# Altium footprint library QTH-060-XX-X-D-A.PcbLib: 1 footprints
Each footprint in its own frame and in the unit in brackets; x right, y up, seen from the top. Pads: shape width x height; smd on the part's side, far side on the other; paste and mask are expansions set on the pad; w line width, h text height; cw(c..) or ccw(c..) is an arc to the next point about the centre after c.
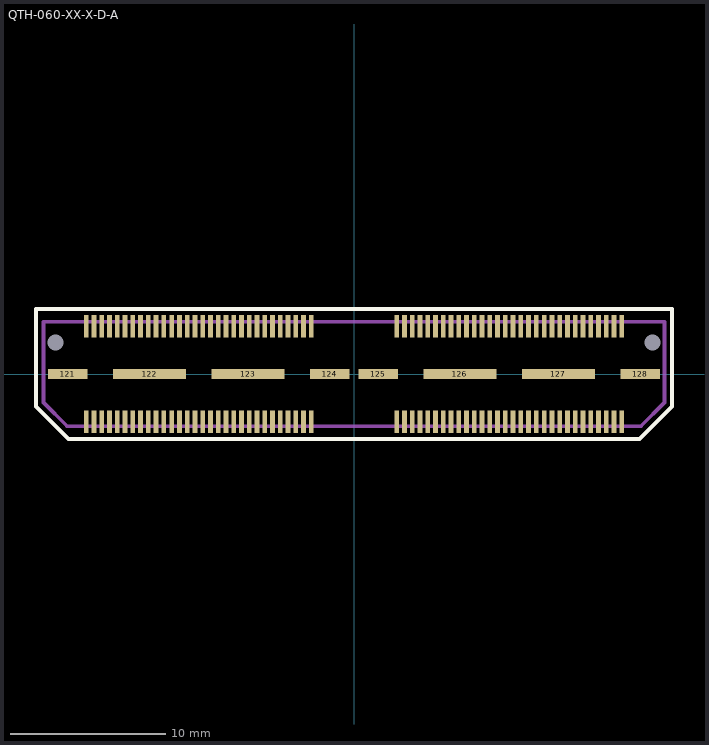
[diagram p0: the footprint, top view; thin cyan lines are the x and y axes]

## QTH-060-XX-X-D-A [mm]
pads (130):
  rect 0.305x1.45 smd mask+0.05: 1(-17.25,3.086) 2(-17.25,-3.086) 3(-16.75,3.086) 4(-16.75,-3.086) 5(-16.25,3.086) 6(-16.25,-3.086) 7(-15.75,3.086) 8(-15.75,-3.086) 9(-15.25,3.086) 10(-15.25,-3.086) 11(-14.75,3.086) 12(-14.75,-3.086) 13(-14.25,3.086) 14(-14.25,-3.086) 15(-13.75,3.086) 16(-13.75,-3.086) 17(-13.25,3.086) 18(-13.25,-3.086) 19(-12.75,3.086) 20(-12.75,-3.086) 21(-12.25,3.086) 22(-12.25,-3.086) 23(-11.75,3.086) 24(-11.75,-3.086) 25(-11.25,3.086) 26(-11.25,-3.086) 27(-10.75,3.086) 28(-10.75,-3.086) 29(-10.25,3.086) 30(-10.25,-3.086) 31(-9.75,3.086) 32(-9.75,-3.086) 33(-9.25,3.086) 34(-9.25,-3.086) 35(-8.75,3.086) 36(-8.75,-3.086) 37(-8.25,3.086) 38(-8.25,-3.086) 39(-7.75,3.086) 40(-7.75,-3.086) 41(-7.25,3.086) 42(-7.25,-3.086) 43(-6.75,3.086) 44(-6.75,-3.086) 45(-6.25,3.086) 46(-6.25,-3.086) 47(-5.75,3.086) 48(-5.75,-3.086) 49(-5.25,3.086) 50(-5.25,-3.086) 51(-4.75,3.086) 52(-4.75,-3.086) 53(-4.25,3.086) 54(-4.25,-3.086) 55(-3.75,3.086) 56(-3.75,-3.086) 57(-3.25,3.086) 58(-3.25,-3.086) 59(-2.75,3.086) 60(-2.75,-3.086) 61(2.75,3.086) 62(2.75,-3.086) 63(3.25,3.086) 64(3.25,-3.086) 65(3.75,3.086) 66(3.75,-3.086) 67(4.25,3.086) 68(4.25,-3.086) 69(4.75,3.086) 70(4.75,-3.086) 71(5.25,3.086) 72(5.25,-3.086) 73(5.75,3.086) 74(5.75,-3.086) 75(6.25,3.086) 76(6.25,-3.086) 77(6.75,3.086) 78(6.75,-3.086) 79(7.25,3.086) 80(7.25,-3.086) 81(7.75,3.086) 82(7.75,-3.086) 83(8.25,3.086) 84(8.25,-3.086) 85(8.75,3.086) 86(8.75,-3.086) 87(9.25,3.086) 88(9.25,-3.086) 89(9.75,3.086) 90(9.75,-3.086) 91(10.25,3.086) 92(10.25,-3.086) 93(10.75,3.086) 94(10.75,-3.086) 95(11.25,3.086) 96(11.25,-3.086) 97(11.75,3.086) 98(11.75,-3.086) 99(12.25,3.086) 100(12.25,-3.086) 101(12.75,3.086) 102(12.75,-3.086) 103(13.25,3.086) 104(13.25,-3.086) 105(13.75,3.086) 106(13.75,-3.086) 107(14.25,3.086) 108(14.25,-3.086) 109(14.75,3.086) 110(14.75,-3.086) 111(15.25,3.086) 112(15.25,-3.086) 113(15.75,3.086) 114(15.75,-3.086) 115(16.25,3.086) 116(16.25,-3.086) 117(16.75,3.086) 118(16.75,-3.086) 119(17.25,3.086) 120(17.25,-3.086)
  rect 2.54x0.64 smd mask+0.05: 121(-18.445,0) 124(-1.555,0) 125(1.555,0) 128(18.445,0)
  rect 4.7x0.64 smd mask+0.05: 122(-13.175,0) 123(-6.825,0) 126(6.825,0) 127(13.175,0)
  round 0 hole 1.02 unplated: 129(-19.24,2.03) 130(19.24,2.03)
Top Overlay:
  lines w0.254: -20.5,-2.1 -20.5,4.2 20.5,4.2 20.5,-2.1 18.4,-4.2 -18.4,-4.2 -20.5,-2.1
Mechanical 1:
  lines w0.254: -20.001,-1.841 -20.001,3.365 20.001,3.365 20.001,-1.841 18.477,-3.365 -18.477,-3.365 -20.001,-1.841
  text "J1" at -0.446,-0.457 h0.76